# EAGLE library part ATTINY861 (library ElectricNoodleBox)
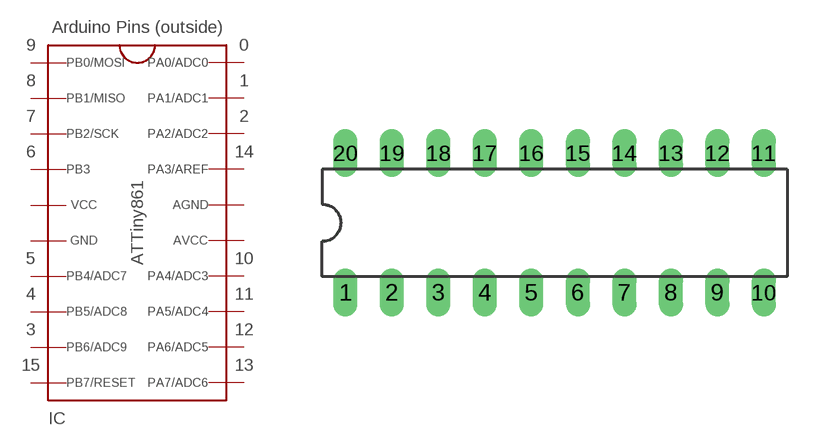
[diagram p7: symbol with the pads of DIL20; footprint DIL20]

Designator prefix IC

## ATTINY861  [DIL20]
1  1_PB0
2  2_PB1
3  3_PB2
4  4_PB3
5  VCC  pwr
6  GND  pwr
7  7_PB4
8  8_PB5
9  9_PB6
10  10_PB7
11  11_PA7
12  12_PA6
13  13_PA5
14  14_PA4
15  AVCC
16  AGND
17  17_PA3
18  18_PA2
19  19_PA1
20  20_PA0

## Footprint DIL20 (pad centres in mm)
Dual In Line Package
drill 0.813 long: 1 -11.43,-3.81; 2 -8.89,-3.81; 3 -6.35,-3.81; 4 -3.81,-3.81; 5 -1.27,-3.81; 6 1.27,-3.81; 7 3.81,-3.81; 8 6.35,-3.81; 9 8.89,-3.81; 10 11.43,-3.81; 11 11.43,3.81; 12 8.89,3.81; 13 6.35,3.81; 14 3.81,3.81; 15 1.27,3.81; 16 -1.27,3.81; 17 -3.81,3.81; 18 -6.35,3.81; 19 -8.89,3.81; 20 -11.43,3.81